# Altium footprint library WG-LOCK.PcbLib: 52 footprints (part 4 of 4)
Each footprint in its own frame and in the unit in brackets; x right, y up, seen from the top. Pads: shape width x height; smd on the part's side, far side on the other; paste and mask are expansions set on the pad; w line width, h text height; cw(c..) or ccw(c..) is an arc to the next point about the centre after c.
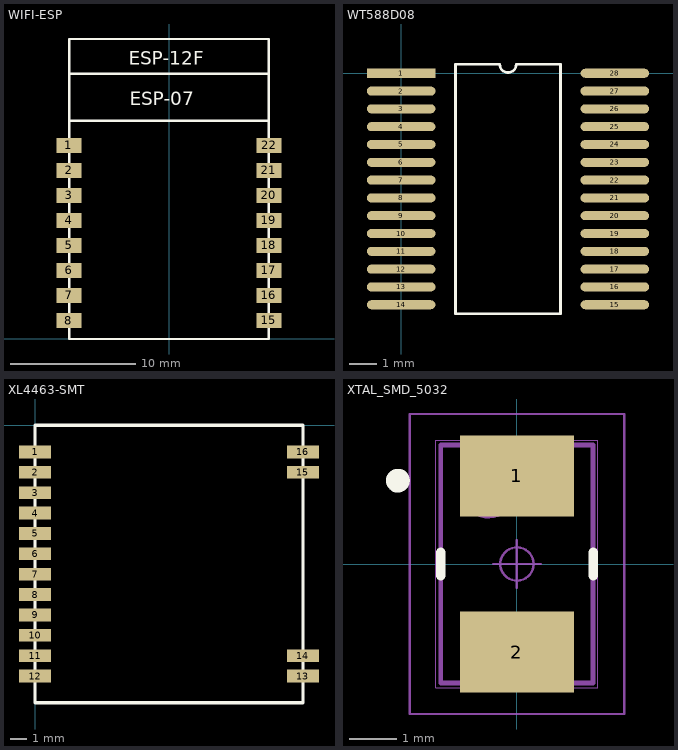
[diagram p3: the footprints below, top view; thin cyan lines are the x and y axes]

## WIFI-ESP [mm]
pads (16):
  rect 2x1.2 smd: 1(-8,15.48) 2(-8,13.48) 3(-8,11.48) 4(-8,9.48) 5(-8,7.48) 6(-8,5.48) 7(-8,3.48) 8(-8,1.48) 15(8,1.48) 16(8,3.48) 17(8,5.48) 18(8,7.48) 19(8,9.48) 20(8,11.48) 21(8,13.48) 22(8,15.48)
Top Overlay:
  lines w0.2: -8,17.45 8,17.45 ; -8,21.2 8,21.2 ; -8,0 8,0 8,24 -8,24 -8,0
  text "ESP-07" at -3.15,18.7 h1.07
  text "ESP-12F" at -3.2,21.95 h1.07

## WT588D08 [mm]
pads (28):
  rect 2.5x0.33 smd: 1(0,0)
  oval 2.5x0.33 smd: 2(0,-0.65) 3(0,-1.3) 4(0,-1.95) 5(0,-2.6) 6(0,-3.25) 7(0,-3.9) 8(0,-4.55) 9(0,-5.2) 10(0,-5.85) 11(0,-6.5) 12(0,-7.15) 13(0,-7.8) 14(0,-8.45) 15(7.8,-8.45) 16(7.8,-7.8) 17(7.8,-7.15) 18(7.8,-6.5) 19(7.8,-5.85) 20(7.8,-5.2) 21(7.8,-4.55) 22(7.8,-3.9) 23(7.8,-3.25) 24(7.8,-2.6) 25(7.8,-1.95) 26(7.8,-1.3) 27(7.8,-0.65) 28(7.8,0)
Top Overlay:
  lines w0.1: 1.985,0.325 1.985,-8.775 5.815,-8.775 5.815,0.325 ; 2.032,0.33 3.556,0.33 ; 3.6,0.325 ccw(c3.9,0.325) 4.2,0.325 ; 4.242,0.33 5.766,0.33

## XL4463-SMT [mm]
pads (16):
  rect 2x0.8 smd: 1(0,-1.665) 2(0,-2.935) 3(0,-4.205) 4(0,-5.475) 5(0,-6.745) 6(0,-8.015) 7(0,-9.285) 8(0,-10.555) 9(0,-11.825) 10(0,-13.095) 11(0,-14.365) 12(0,-15.635) 13(16.7,-15.635) 14(16.7,-14.365) 15(16.7,-2.935) 16(16.7,-1.665)
Top Overlay:
  lines w0.2: 0,-17.3 16.7,-17.3 16.7,0 0,0 0,-17.3

## XTAL_SMD_5032 [mm]
pads (2):
  rect 2.4x1.7 smd: 1(0,1.85) 2(0,-1.85)
Top Overlay:
  circle w0.25: c-2.5,1.75 r0.125
  lines w0.2: -1.6,-0.25 -1.6,0.25 ; 1.6,-0.25 1.6,0.25
Mechanical 15:
  circle w0.1: c-0.6,1.5 r0.5
  lines w0.1: -1.6,-2.5 -1.6,2.5 1.6,2.5 1.6,-2.5 -1.6,-2.5
Mechanical 16:
  circle w0.05: c0,0 r0.35
  lines w0.001: -1.7,-2.6 -1.7,2.6 1.7,2.6 1.7,-2.6 -1.7,-2.6
  lines w0.05: -0.5,0 0.5,0 ; 0,-0.5 0,0.5 ; -2.25,-3.15 -2.25,3.15 2.25,3.15 2.25,-3.15 -2.25,-3.15